# EAGLE library part TPS628122GQWRWYRQ1 (library TPS628122GQWRWYRQ1)
Switching Voltage Regulators Automotive 2.75-V to 6-V, 2-A step-down converter in a 2mm x 3mm wettable-flanks QFN package 9-VQFN-HR -40 to 125 Source: Datasheet <https://www.ti.com/lit/gpn/TPS62812-Q1>
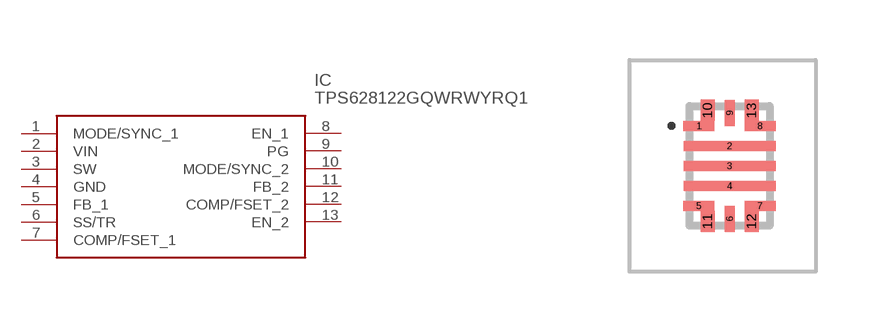
[diagram p0: symbol with the pads of TPS628122GQWRWYRQ1; footprint TPS628122GQWRWYRQ1]

Designator prefix IC

## TPS628122GQWRWYRQ1 (Arrow_Part_Number: TPS628122GQWRWYRQ1; Arrow_Price-Stock: https://www.arrow.com/en/products/tps628122gqwrwyrq1/texas-instruments?region=nac; Description: Switching Voltage Regulators Automotive 2.75-V to 6-V, 2-A step-down converter in a 2mm x 3mm wettable-flanks QFN package 9-VQFN-HR -40 to 125; Height: 1mm; Manufacturer_Name: Texas Instruments; Manufacturer_Part_Number: TPS628122GQWRWYRQ1; Mouser_Part_Number: 595-S628122GQWRWYRQ1; Mouser_Price-Stock: https://www.mouser.co.uk/ProductDetail/Texas-Instruments/TPS628122GQWRWYRQ1?qs=GBLSl2Akirv%2FFCAUOFHZ8A%3D%3D)  [TPS628122GQWRWYRQ1]
1  MODE/SYNC_1
2  VIN
3  SW
4  GND
5  FB_1
6  SS/TR
7  COMP/FSET_1
8  EN_1
9  PG
10  MODE/SYNC_2
11  FB_2
12  COMP/FSET_2
13  EN_2

## Footprint TPS628122GQWRWYRQ1 (pad centres in mm)
TPS628122GQWRWYRQ1-1
smd 0.775 x 0.25: 1 -0.763,1; 5 -0.763,-1; 7 0.763,-1; 8 0.763,1
smd 2.3 x 0.25: 2 0,0.5; 3 0,0; 4 0,-0.5
smd 0.25 x 0.65: 6 0,-1.325; 9 0,1.325
smd 0.35 x 0.525: 10 -0.55,1.388; 11 -0.55,-1.388; 12 0.55,-1.388; 13 0.55,1.388